# Altium footprint library ECE LIB new.PcbLib: 55 footprints (part 4 of 4)
Each footprint in its own frame and in the unit in brackets; x right, y up, seen from the top. Pads: shape width x height; smd on the part's side, far side on the other; paste and mask are expansions set on the pad; w line width, h text height; cw(c..) or ccw(c..) is an arc to the next point about the centre after c.
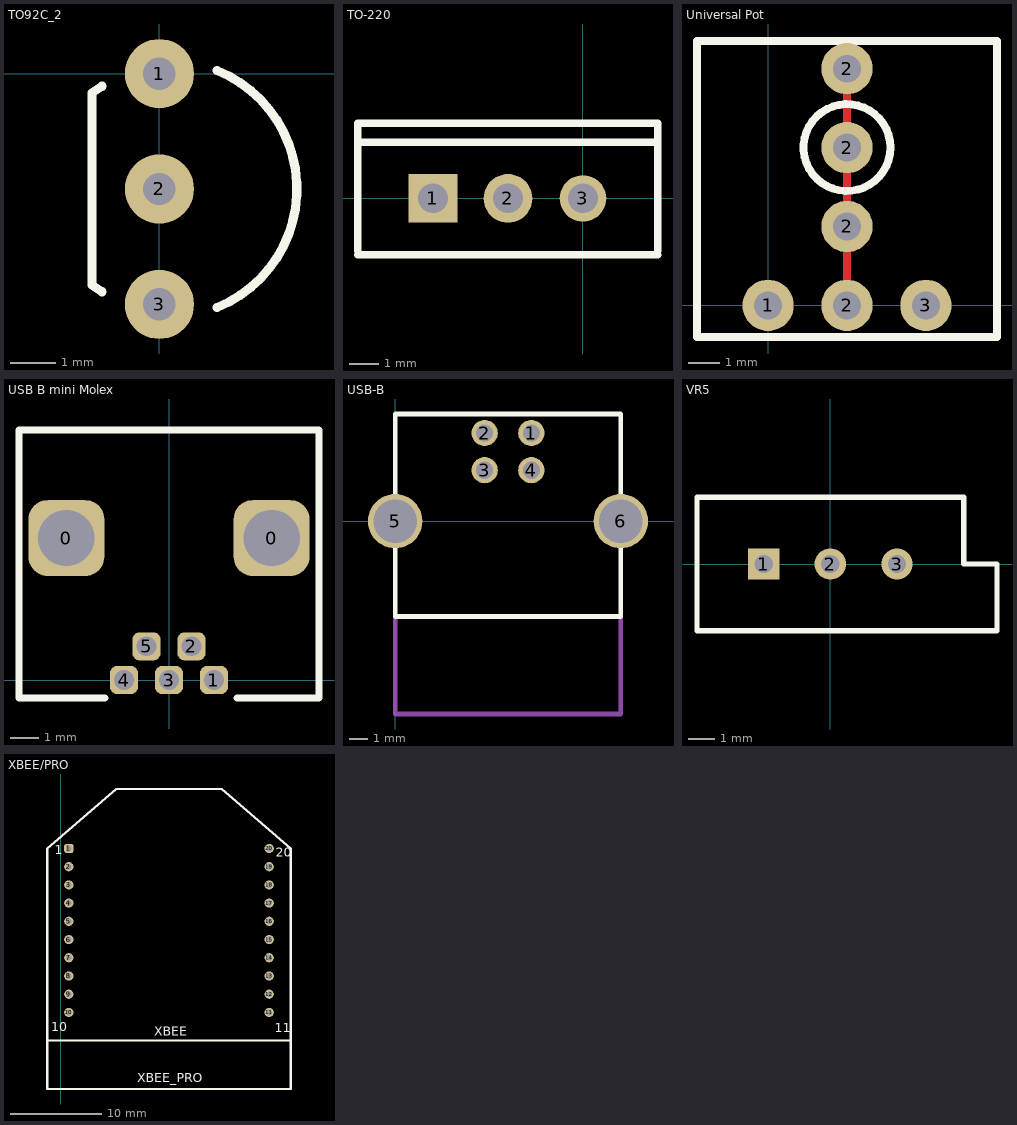
[diagram p3: the footprints below, top view; thin cyan lines are the x and y axes]

## TO92C_2 [mil]
pads (3):
  round 60 hole 28: 1(0,0) 2(0,-100) 3(0,-200)
Top Overlay:
  lines w7.87: -49.71,-189.08 -58.33,-183.33 -58.33,-16.67 -49.71,-10.92 ; 49.85,-202.76 ccw(c8.33,-100) 49.85,2.76

## TO-220 [mil]
pads (3):
  rect 65x65 hole 39.4: 1(-200,0)
  round 65 hole 39.4: 2(-100,0)
  round 62 hole 39.4: 3(0,0)
Top Overlay:
  lines w10: -300,-75 100,-75 ; -300,-70 -300,100 100,100 100,-70 ; -300,75 100,75

## Universal Pot [mil]
pads (6):
  round 65 hole 35: 1(0,0) 2(100,0) 2(100,100) 2(100,200) 2(100,300) 3(200,0)
Top Layer:
  lines w10: 100,0 100,100 100,200 100,300
Bottom Layer:
  lines w10: 100,0 100,100 100,200 100,300
Top Overlay:
  circle w10: c100,200 r55
  lines w10: -90,-40 -90,335 290,335 290,-40 -90,-40

## USB B mini Molex [mm]
pads (7):
  rrect50% 2.7x2.7 hole 2: 0(-3.65,5.05) 0(3.65,5.05)
  rrect50% 1x1 hole 0.7: 1(1.6,0) 2(0.8,1.2) 3(0,0) 4(-1.6,0) 5(-0.8,1.2)
Top Overlay:
  lines w0.254: -2.286,-0.635 -5.334,-0.635 -5.334,5.08 -5.334,8.89 5.334,8.89 5.334,-0.635 2.413,-0.635

## USB-B [mil]
pads (6):
  round 55 hole 36: 1(286,185) 2(188,185) 3(188,107) 4(286,107)
  round 114.17 hole 91: 5(0,0) 6(474,0)
Top Overlay:
  lines w10: 0,-200 0,225 474,225 474,-200 0,-200
Mechanical 1:
  lines w10: 0,-200 0,-405 474,-405 474,-200

## VR5 [mm]
pads (3):
  rect 1.2x1.2 hole 0.7: 1(-2.54,0)
  round 1.2 hole 0.7: 2(0,0) 3(2.54,0)
Top Overlay:
  lines w0.2: -5.08,-2.54 6.35,-2.54 6.35,0 5.08,0 5.08,2.54 -5.08,2.54 -5.08,-2.54

## XBEE/PRO [mil]
pads (20):
  rrect50% 40x40 hole 25: 1(35,-432.09)
  round 40 hole 25: 2(35,-510.83) 3(35,-589.57) 4(35,-668.31) 5(35,-747.05) 6(35,-825.79) 7(35,-904.53) 8(35,-983.27) 9(35,-1062.01) 10(35,-1140.75) 11(901.14,-1140.75) 12(901.14,-1062.01) 13(901.14,-983.27) 14(901.14,-904.53) 15(901.14,-825.79) 16(901.14,-747.05) 17(901.14,-668.31) 18(901.14,-589.57) 19(901.14,-510.83) 20(901.14,-432.09)
Top Overlay:
  lines w10: -58.7,-1262.09 994.84,-1262.09 ; 994.84,-431.93 994.84,-432.09 ; 994.84,-432.09 696.02,-175 240.12,-175 -58.7,-432.09 -58.7,-1471.85 994.84,-1471.85 994.84,-432.09
  text "XBEE" at 405,-1242.09 h40
  text "XBEE_PRO" at 330,-1442.09 h40
  text "1" at -25,-457.09 h40
  text "10" at -40,-1222.09 h40
  text "11" at 925,-1227.09 h40
  text "20" at 930,-467.09 h40